# Altium footprint library TI PCB.PCBLIB: 93 footprints (part 5 of 6)
Each footprint in its own frame and in the unit in brackets; x right, y up, seen from the top. Pads: shape width x height; smd on the part's side, far side on the other; paste and mask are expansions set on the pad; w line width, h text height; cw(c..) or ccw(c..) is an arc to the next point about the centre after c.
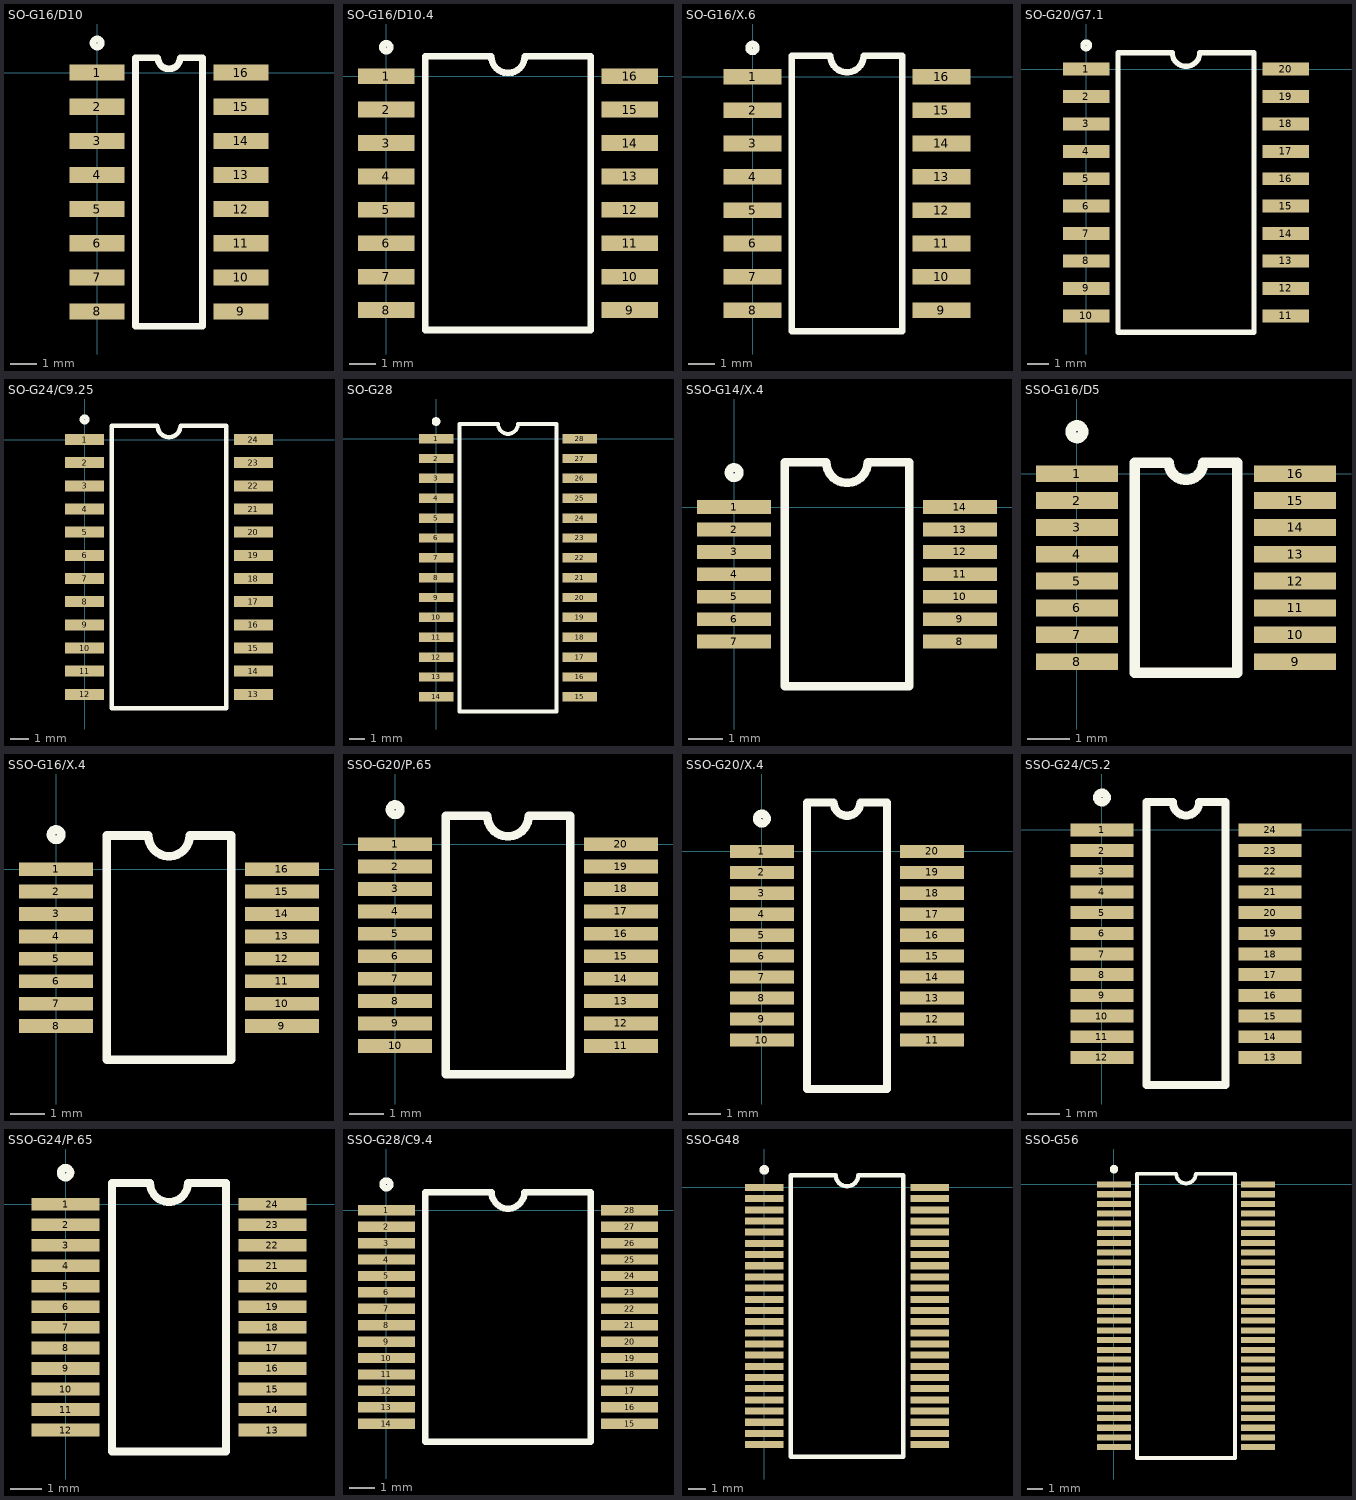
[diagram p4: the footprints below, top view; thin cyan lines are the x and y axes]

## SO-G16/D10 [mm]
pads (16):
  rect 2.05x0.6 smd: 1(0,0) 2(0,-1.27) 3(0,-2.54) 4(0,-3.81) 5(0,-5.08) 6(0,-6.35) 7(0,-7.62) 8(0,-8.89) 9(5.35,-8.89) 10(5.35,-7.62) 11(5.35,-6.35) 12(5.35,-5.08) 13(5.35,-3.81) 14(5.35,-2.54) 15(5.35,-1.27) 16(5.35,0)
Top Overlay:
  circle w0.25: c0,1.1 r0.15
  lines w0.25: 1.425,-9.445 3.925,-9.445 3.925,0.555 3.092,0.555 cw(c2.675,0.555) 2.258,0.555 1.425,0.555 1.425,-9.445

## SO-G16/D10.4 [mm]
pads (16):
  rect 2.15x0.6 smd: 1(0,0) 2(0,-1.27) 3(0,-2.54) 4(0,-3.81) 5(0,-5.08) 6(0,-6.35) 7(0,-7.62) 8(0,-8.89) 9(9.25,-8.89) 10(9.25,-7.62) 11(9.25,-6.35) 12(9.25,-5.08) 13(9.25,-3.81) 14(9.25,-2.54) 15(9.25,-1.27) 16(9.25,0)
Top Overlay:
  circle w0.25: c0,1.1 r0.15
  lines w0.25: 1.475,-9.645 1.475,0.755 3.99,0.755 ccw(c4.625,0.755) 5.26,0.755 7.775,0.755 7.775,-9.645 1.475,-9.645

## SO-G16/X.6 [mm]
pads (16):
  rect 2.2x0.6 smd: 1(0,0) 2(0,-1.27) 3(0,-2.54) 4(0,-3.81) 5(0,-5.08) 6(0,-6.35) 7(0,-7.62) 8(0,-8.89) 9(7.2,-8.89) 10(7.2,-7.62) 11(7.2,-6.35) 12(7.2,-5.08) 13(7.2,-3.81) 14(7.2,-2.54) 15(7.2,-1.27) 16(7.2,0)
Top Overlay:
  circle w0.25: c0,1.1 r0.15
  lines w0.25: 1.5,-9.695 5.7,-9.695 5.7,0.805 4.235,0.805 cw(c3.6,0.805) 2.965,0.805 1.5,0.805 1.5,-9.695

## SO-G20/G7.1 [mm]
pads (20):
  rect 2.15x0.6 smd: 1(0,0) 2(0,-1.27) 3(0,-2.54) 4(0,-3.81) 5(0,-5.08) 6(0,-6.35) 7(0,-7.62) 8(0,-8.89) 9(0,-10.16) 10(0,-11.43) 11(9.25,-11.43) 12(9.25,-10.16) 13(9.25,-8.89) 14(9.25,-7.62) 15(9.25,-6.35) 16(9.25,-5.08) 17(9.25,-3.81) 18(9.25,-2.54) 19(9.25,-1.27) 20(9.25,0)
Top Overlay:
  circle w0.25: c0,1.1 r0.15
  lines w0.25: 1.475,-12.19 1.475,0.76 3.99,0.76 ccw(c4.625,0.76) 5.26,0.76 7.775,0.76 7.775,-12.19 1.475,-12.19

## SO-G24/C9.25 [mm]
pads (24):
  rect 2.15x0.6 smd: 1(0,0) 2(0,-1.27) 3(0,-2.54) 4(0,-3.81) 5(0,-5.08) 6(0,-6.35) 7(0,-7.62) 8(0,-8.89) 9(0,-10.16) 10(0,-11.43) 11(0,-12.7) 12(0,-13.97) 13(9.25,-13.97) 14(9.25,-12.7) 15(9.25,-11.43) 16(9.25,-10.16) 17(9.25,-8.89) 18(9.25,-7.62) 19(9.25,-6.35) 20(9.25,-5.08) 21(9.25,-3.81) 22(9.25,-2.54) 23(9.25,-1.27) 24(9.25,0)
Top Overlay:
  circle w0.25: c0,1.1 r0.15
  lines w0.25: 1.475,-14.735 7.775,-14.735 7.775,0.765 5.26,0.765 cw(c4.625,0.765) 3.99,0.765 1.475,0.765 1.475,-14.735

## SO-G28 [mm]
pads (28):
  rect 2.2x0.6 smd: 1(0,0) 2(0,-1.27) 3(0,-2.54) 4(0,-3.81) 5(0,-5.08) 6(0,-6.35) 7(0,-7.62) 8(0,-8.89) 9(0,-10.16) 10(0,-11.43) 11(0,-12.7) 12(0,-13.97) 13(0,-15.24) 14(0,-16.51) 15(9.2,-16.51) 16(9.2,-15.24) 17(9.2,-13.97) 18(9.2,-12.7) 19(9.2,-11.43) 20(9.2,-10.16) 21(9.2,-8.89) 22(9.2,-7.62) 23(9.2,-6.35) 24(9.2,-5.08) 25(9.2,-3.81) 26(9.2,-2.54) 27(9.2,-1.27) 28(9.2,0)
Top Overlay:
  circle w0.25: c0,1.1 r0.15
  lines w0.25: 1.5,-17.455 7.7,-17.455 7.7,0.945 5.235,0.945 cw(c4.6,0.945) 3.965,0.945 1.5,0.945 1.5,-17.455

## SSO-G14/X.4 [mm]
pads (14):
  rect 2.15x0.4 smd: 1(0,0) 2(0,-0.65) 3(0,-1.3) 4(0,-1.95) 5(0,-2.6) 6(0,-3.25) 7(0,-3.9) 8(6.55,-3.9) 9(6.55,-3.25) 10(6.55,-2.6) 11(6.55,-1.95) 12(6.55,-1.3) 13(6.55,-0.65) 14(6.55,0)
Top Overlay:
  circle w0.25: c0,1 r0.15
  lines w0.25: 1.475,-5.2 1.475,1.3 2.675,1.3 ccw(c3.275,1.3) 3.875,1.3 5.075,1.3 5.075,-5.2 1.475,-5.2

## SSO-G16/D5 [mm]
pads (16):
  rect 1.95x0.4 smd: 1(0,0) 2(0,-0.64) 3(0,-1.28) 4(0,-1.92) 5(0,-2.56) 6(0,-3.2) 7(0,-3.84) 8(0,-4.48) 9(5.2,-4.48) 10(5.2,-3.84) 11(5.2,-3.2) 12(5.2,-2.56) 13(5.2,-1.92) 14(5.2,-1.28) 15(5.2,-0.64) 16(5.2,0)
Top Overlay:
  circle w0.25: c0,1 r0.15
  lines w0.25: 1.375,-4.74 1.375,0.26 2.192,0.26 ccw(c2.6,0.26) 3.008,0.26 3.825,0.26 3.825,-4.74 1.375,-4.74

## SSO-G16/X.4 [mm]
pads (16):
  rect 2.15x0.4 smd: 1(0,0) 2(0,-0.65) 3(0,-1.3) 4(0,-1.95) 5(0,-2.6) 6(0,-3.25) 7(0,-3.9) 8(0,-4.55) 9(6.55,-4.55) 10(6.55,-3.9) 11(6.55,-3.25) 12(6.55,-2.6) 13(6.55,-1.95) 14(6.55,-1.3) 15(6.55,-0.65) 16(6.55,0)
Top Overlay:
  circle w0.25: c0,1 r0.15
  lines w0.25: 1.475,-5.525 5.075,-5.525 5.075,0.975 3.875,0.975 cw(c3.275,0.975) 2.675,0.975 1.475,0.975 1.475,-5.525

## SSO-G20/P.65 [mm]
pads (20):
  rect 2.15x0.4 smd: 1(0,0) 2(0,-0.65) 3(0,-1.3) 4(0,-1.95) 5(0,-2.6) 6(0,-3.25) 7(0,-3.9) 8(0,-4.55) 9(0,-5.2) 10(0,-5.85) 11(6.55,-5.85) 12(6.55,-5.2) 13(6.55,-4.55) 14(6.55,-3.9) 15(6.55,-3.25) 16(6.55,-2.6) 17(6.55,-1.95) 18(6.55,-1.3) 19(6.55,-0.65) 20(6.55,0)
Top Overlay:
  circle w0.25: c0,1 r0.15
  lines w0.25: 1.475,-6.675 1.475,0.825 2.675,0.825 ccw(c3.275,0.825) 3.875,0.825 5.075,0.825 5.075,-6.675 1.475,-6.675

## SSO-G20/X.4 [mm]
pads (20):
  rect 1.95x0.4 smd: 1(0,0) 2(0,-0.64) 3(0,-1.28) 4(0,-1.92) 5(0,-2.56) 6(0,-3.2) 7(0,-3.84) 8(0,-4.48) 9(0,-5.12) 10(0,-5.76) 11(5.2,-5.76) 12(5.2,-5.12) 13(5.2,-4.48) 14(5.2,-3.84) 15(5.2,-3.2) 16(5.2,-2.56) 17(5.2,-1.92) 18(5.2,-1.28) 19(5.2,-0.64) 20(5.2,0)
Top Overlay:
  circle w0.25: c0,1 r0.15
  lines w0.25: 1.375,-7.255 1.375,1.495 2.192,1.495 ccw(c2.6,1.495) 3.008,1.495 3.825,1.495 3.825,-7.255 1.375,-7.255

## SSO-G24/C5.2 [mm]
pads (24):
  rect 1.95x0.4 smd: 1(0,0) 2(0,-0.64) 3(0,-1.28) 4(0,-1.92) 5(0,-2.56) 6(0,-3.2) 7(0,-3.84) 8(0,-4.48) 9(0,-5.12) 10(0,-5.76) 11(0,-6.4) 12(0,-7.04) 13(5.2,-7.04) 14(5.2,-6.4) 15(5.2,-5.76) 16(5.2,-5.12) 17(5.2,-4.48) 18(5.2,-3.84) 19(5.2,-3.2) 20(5.2,-2.56) 21(5.2,-1.92) 22(5.2,-1.28) 23(5.2,-0.64) 24(5.2,0)
Top Overlay:
  circle w0.25: c0,1 r0.15
  lines w0.25: 1.375,-7.895 1.375,0.855 2.192,0.855 ccw(c2.6,0.855) 3.008,0.855 3.825,0.855 3.825,-7.895 1.375,-7.895

## SSO-G24/P.65 [mm]
pads (24):
  rect 2.15x0.4 smd: 1(0,0) 2(0,-0.65) 3(0,-1.3) 4(0,-1.95) 5(0,-2.6) 6(0,-3.25) 7(0,-3.9) 8(0,-4.55) 9(0,-5.2) 10(0,-5.85) 11(0,-6.5) 12(0,-7.15) 13(6.55,-7.15) 14(6.55,-6.5) 15(6.55,-5.85) 16(6.55,-5.2) 17(6.55,-4.55) 18(6.55,-3.9) 19(6.55,-3.25) 20(6.55,-2.6) 21(6.55,-1.95) 22(6.55,-1.3) 23(6.55,-0.65) 24(6.55,0)
Top Overlay:
  circle w0.25: c0,1 r0.15
  lines w0.25: 3.875,0.675 cw(c3.275,0.675) 2.675,0.675 1.475,0.675 1.475,-7.825 5.075,-7.825 5.075,0.675 3.875,0.675

## SSO-G28/C9.4 [mm]
pads (28):
  rect 2.2x0.4 smd: 1(0,0) 2(0,-0.635) 3(0,-1.27) 4(0,-1.905) 5(0,-2.54) 6(0,-3.175) 7(0,-3.81) 8(0,-4.445) 9(0,-5.08) 10(0,-5.715) 11(0,-6.35) 12(0,-6.985) 13(0,-7.62) 14(0,-8.255) 15(9.4,-8.255) 16(9.4,-7.62) 17(9.4,-6.985) 18(9.4,-6.35) 19(9.4,-5.715) 20(9.4,-5.08) 21(9.4,-4.445) 22(9.4,-3.81) 23(9.4,-3.175) 24(9.4,-2.54) 25(9.4,-1.905) 26(9.4,-1.27) 27(9.4,-0.635) 28(9.4,0)
Top Overlay:
  circle w0.25: c0,1 r0.15
  lines w0.25: 1.5,-8.953 1.5,0.698 4.065,0.698 ccw(c4.7,0.698) 5.335,0.698 7.9,0.698 7.9,-8.953 1.5,-8.953

## SSO-G48 [mm]
pads (48):
  rect 2.2x0.4 smd: 1(0,0) 2(0,-0.635) 3(0,-1.27) 4(0,-1.905) 5(0,-2.54) 6(0,-3.175) 7(0,-3.81) 8(0,-4.445) 9(0,-5.08) 10(0,-5.715) 11(0,-6.35) 12(0,-6.985) 13(0,-7.62) 14(0,-8.255) 15(0,-8.89) 16(0,-9.525) 17(0,-10.16) 18(0,-10.795) 19(0,-11.43) 20(0,-12.065) 21(0,-12.7) 22(0,-13.335) 23(0,-13.97) 24(0,-14.605) 25(9.4,-14.605) 26(9.4,-13.97) 27(9.4,-13.335) 28(9.4,-12.7) 29(9.4,-12.065) 30(9.4,-11.43) 31(9.4,-10.795) 32(9.4,-10.16) 33(9.4,-9.525) 34(9.4,-8.89) 35(9.4,-8.255) 36(9.4,-7.62) 37(9.4,-6.985) 38(9.4,-6.35) 39(9.4,-5.715) 40(9.4,-5.08) 41(9.4,-4.445) 42(9.4,-3.81) 43(9.4,-3.175) 44(9.4,-2.54) 45(9.4,-1.905) 46(9.4,-1.27) 47(9.4,-0.635) 48(9.4,0)
Top Overlay:
  circle w0.25: c0,1 r0.15
  lines w0.25: 1.5,-15.303 1.5,0.698 4.065,0.698 ccw(c4.7,0.698) 5.335,0.698 7.9,0.698 7.9,-15.303 1.5,-15.303

## SSO-G56 [mm]
pads (56):
  rect 2.2x0.4 smd: 1(0,0) 2(0,-0.635) 3(0,-1.27) 4(0,-1.905) 5(0,-2.54) 6(0,-3.175) 7(0,-3.81) 8(0,-4.445) 9(0,-5.08) 10(0,-5.715) 11(0,-6.35) 12(0,-6.985) 13(0,-7.62) 14(0,-8.255) 15(0,-8.89) 16(0,-9.525) 17(0,-10.16) 18(0,-10.795) 19(0,-11.43) 20(0,-12.065) 21(0,-12.7) 22(0,-13.335) 23(0,-13.97) 24(0,-14.605) 25(0,-15.24) 26(0,-15.875) 27(0,-16.51) 28(0,-17.145) 29(9.4,-17.145) 30(9.4,-16.51) 31(9.4,-15.875) 32(9.4,-15.24) 33(9.4,-14.605) 34(9.4,-13.97) 35(9.4,-13.335) 36(9.4,-12.7) 37(9.4,-12.065) 38(9.4,-11.43) 39(9.4,-10.795) 40(9.4,-10.16) 41(9.4,-9.525) 42(9.4,-8.89) 43(9.4,-8.255) 44(9.4,-7.62) 45(9.4,-6.985) 46(9.4,-6.35) 47(9.4,-5.715) 48(9.4,-5.08) 49(9.4,-4.445) 50(9.4,-3.81) 51(9.4,-3.175) 52(9.4,-2.54) 53(9.4,-1.905) 54(9.4,-1.27) 55(9.4,-0.635) 56(9.4,0)
Top Overlay:
  circle w0.25: c0,1 r0.15
  lines w0.25: 1.5,-17.848 7.9,-17.848 7.9,0.702 5.335,0.702 cw(c4.7,0.702) 4.065,0.702 1.5,0.702 1.5,-17.848